# Altium footprint library Minuteire_PCB.PcbLib: 10 footprints
Each footprint in its own frame and in the unit in brackets; x right, y up, seen from the top. Pads: shape width x height; smd on the part's side, far side on the other; paste and mask are expansions set on the pad; w line width, h text height; cw(c..) or ccw(c..) is an arc to the next point about the centre after c.
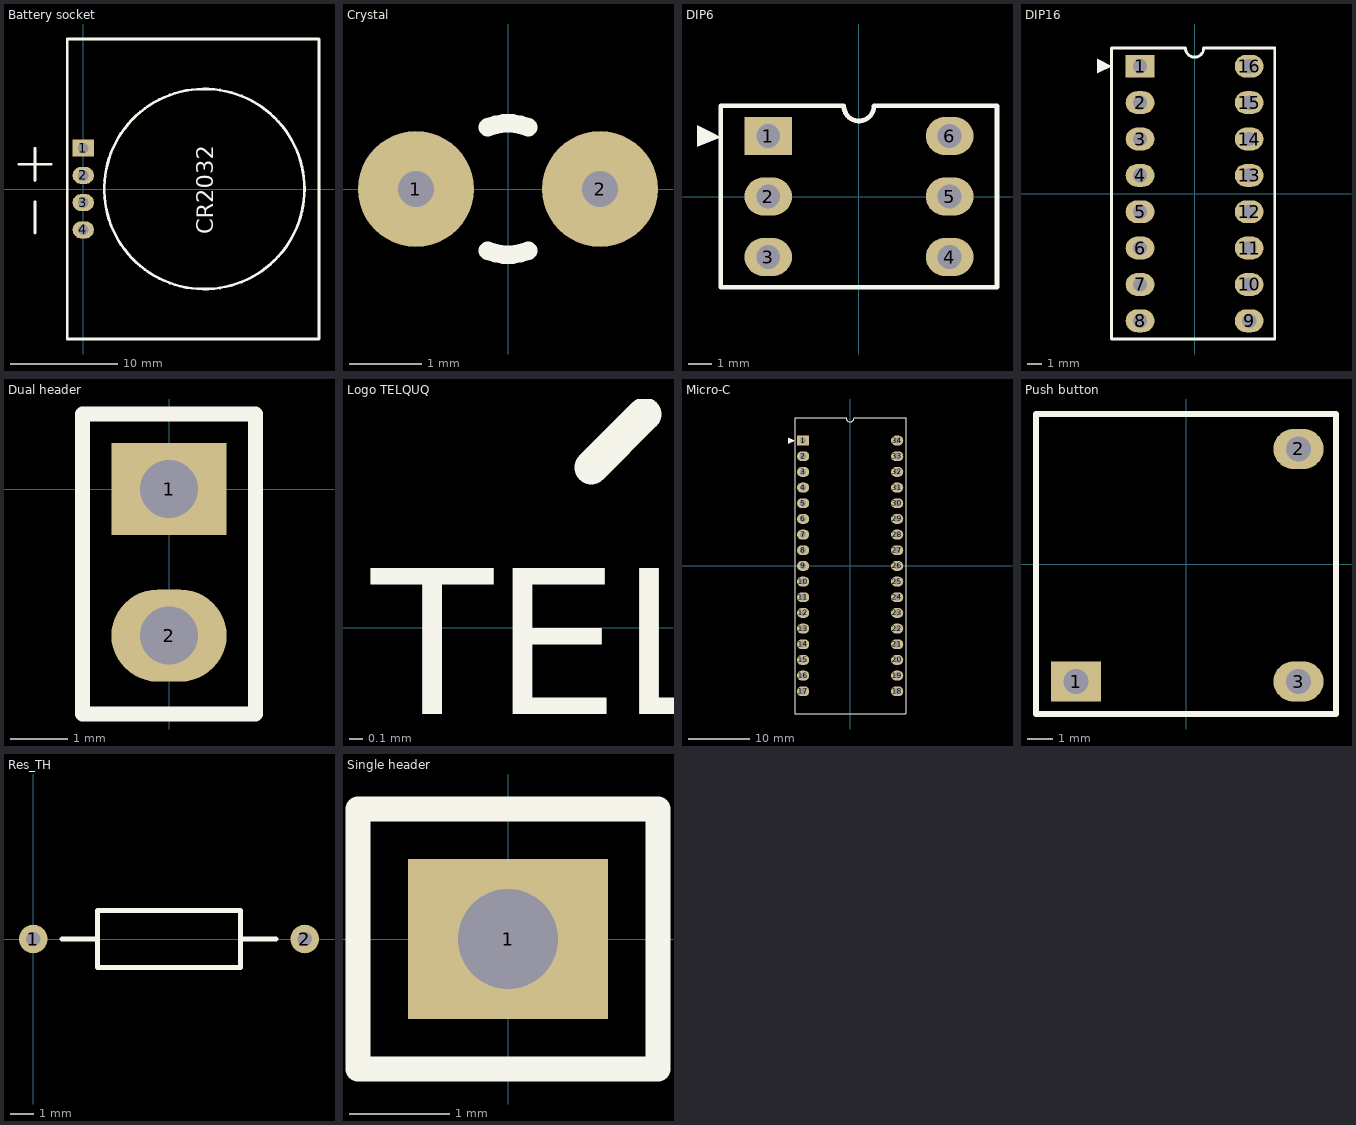
[diagram p0: the footprints below, top view; thin cyan lines are the x and y axes]

## Battery socket [mm]
pads (4):
  rect 2x1.6 hole 1: 1(0,3.81)
  oval 2x1.6 hole 1: 2(0,1.27) 3(0,-1.27) 4(0,-3.81)
Top Overlay:
  circle w0.254: c11.3,0 r9.343
  lines w0.254: -6,2.3 -3,2.3 ; -4.5,-4.1 -4.5,-2.7 -4.5,-1.2 ; -4.5,0.8 -4.5,2.3 -4.5,3.8 ; -1.5,-14 22,-14 22,14 -1.5,14 -1.5,-14
  text "CR2032" at 12.146,-4.246 h1.52

## Crystal [mm]
pads (2):
  round 1.6 hole 0.5: 1(-1.27,0) 2(1.27,0)
Top Overlay:
  lines w0.254: -0.279,-0.85 ccw(c0,-0.2) 0.279,-0.85 ; -0.279,0.85 cw(c0,0.2) 0.279,0.85

## DIP6 [mm]
pads (6):
  rect 2x1.6 hole 1: 1(-3.81,2.54)
  oval 2x1.6 hole 1: 2(-3.81,0) 3(-3.81,-2.54) 4(3.81,-2.54) 5(3.81,0) 6(3.81,2.54)
Top Overlay:
  region: -5.8,2.5 -6.2,2.7 -6.8,3 -6.8,2.1
  lines w0.2: -5.8,-3.81 -5.8,3.81 -0.635,3.81 ccw(c0,3.81) 0.635,3.81 5.8,3.81 5.8,-3.81 -5.8,-3.81

## DIP16 [mm]
pads (16):
  rect 2x1.6 hole 1: 1(-3.81,8.89)
  oval 2x1.6 hole 1: 2(-3.81,6.35) 3(-3.81,3.81) 4(-3.81,1.27) 5(-3.81,-1.27) 6(-3.81,-3.81) 7(-3.81,-6.35) 8(-3.81,-8.89) 9(3.81,-8.89) 10(3.81,-6.35) 11(3.81,-3.81) 12(3.81,-1.27) 13(3.81,1.27) 14(3.81,3.81) 15(3.81,6.35) 16(3.81,8.89)
Top Overlay:
  region: -5.8,8.9 -6.8,9.4 -6.8,8.4
  lines w0.2: -5.8,-10.16 5.6,-10.16 5.6,10.16 0.635,10.16 cw(c0,10.16) -0.635,10.16 -5.8,10.16 -5.8,-10.16

## Dual header [mm]
pads (2):
  rect 2x1.6 hole 1: 1(0,0)
  oval 2x1.6 hole 1: 2(0,-2.54)
Top Overlay:
  lines w0.254: -1.5,-3.9 1.5,-3.9 1.5,1.3 -1.5,1.3 -1.5,-3.9

## Logo TELQUQ [mm]
Top Overlay:
  lines w0.254: -6.5,1.2 -6.1,1.6
  text "TELUQ 2021" at -8.146,-0.646 h1.52

## Micro-C [mm]
pads (34):
  rect 2x1.6 hole 1: 1(-7.62,20.32)
  oval 2x1.6 hole 1: 2(-7.62,17.78) 3(-7.62,15.24) 4(-7.62,12.7) 5(-7.62,10.16) 6(-7.62,7.62) 7(-7.62,5.08) 8(-7.62,2.54) 9(-7.62,0) 10(-7.62,-2.54) 11(-7.62,-5.08) 12(-7.62,-7.62) 13(-7.62,-10.16) 14(-7.62,-12.7) 15(-7.62,-15.24) 16(-7.62,-17.78) 17(-7.62,-20.32) 18(7.62,-20.32) 19(7.62,-17.78) 20(7.62,-15.24) 21(7.62,-12.7) 22(7.62,-10.16) 23(7.62,-7.62) 24(7.62,-5.08) 25(7.62,-2.54) 26(7.62,0) 27(7.62,2.54) 28(7.62,5.08) 29(7.62,7.62) 30(7.62,10.16) 31(7.62,12.7) 32(7.62,15.24) 33(7.62,17.78) 34(7.62,20.32)
Top Overlay:
  region: -9,20.3 -9.6,20.6 -10,20.8 -10,19.8
  lines w0.2: -9,-24 9,-24 9,23.99 0.635,23.99 cw(c0,23.99) -0.635,23.99 -9,23.99 -9,-24

## Push button [mm]
pads (3):
  rect 2x1.6 hole 1: 1(-4.4,-4.7)
  oval 2x1.6 hole 1: 2(4.5,4.6) 3(4.5,-4.7)
Top Overlay:
  lines w0.254: -6,-6 -6,6 6,6 6,-6 -6,-6

## Res_TH [mm]
pads (2):
  round 1.2 hole 0.6: 1(0,0) 2(11.4,0)
Top Overlay:
  lines w0.2: 1.2,0 2.7,0 ; 8.7,0 10.2,0 ; 2.7,-1.2 2.7,1.2 8.7,1.2 8.7,-1.2 2.7,-1.2
3D body "STA_CF14_STP.step": height 2.61, standoff -2.79, extent -0.364,-1.306 11.7,1.306

## Single header [mm]
pads (1):
  rect 2x1.6 hole 1: 1(0,0)
Top Overlay:
  lines w0.254: -1.5,-1.3 -1.5,1.3 1.5,1.3 1.5,-1.3 -1.5,-1.3